# Altium footprint library sony-packages.PcbLib: 4 footprints
Each footprint in its own frame and in the unit in brackets; x right, y up, seen from the top. Pads: shape width x height; smd on the part's side, far side on the other; paste and mask are expansions set on the pad; w line width, h text height; cw(c..) or ccw(c..) is an arc to the next point about the centre after c.
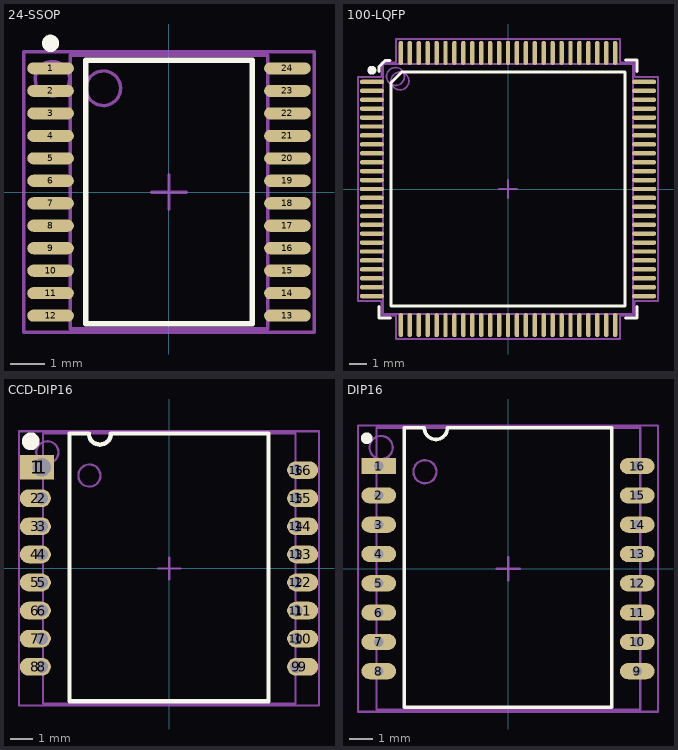
[diagram p0: the footprints below, top view; thin cyan lines are the x and y axes]

## 24-SSOP [mm] "TSOP, 24-Leads, Body 7.9x5.7mm (max), Pitch 0.65mm, IPC High Density"
height 1.25
pads (24):
  oval 1.35x0.35 smd: 1(-3.425,3.575) 2(-3.425,2.925) 3(-3.425,2.275) 4(-3.425,1.625) 5(-3.425,0.975) 6(-3.425,0.325) 7(-3.425,-0.325) 8(-3.425,-0.975) 9(-3.425,-1.625) 10(-3.425,-2.275) 11(-3.425,-2.925) 12(-3.425,-3.575) 13(3.425,-3.575) 14(3.425,-2.925) 15(3.425,-2.275) 16(3.425,-1.625) 17(3.425,-0.975) 18(3.425,-0.325) 19(3.425,0.325) 20(3.425,0.975) 21(3.425,1.625) 22(3.425,2.275) 23(3.425,2.925) 24(3.425,3.575)
Top Overlay:
  circle w0.25: c-3.425,4.3 r0.125
  lines w0.16: -2.413,-3.81 2.413,-3.81 2.413,3.81 -2.413,3.81 -2.413,-3.81
Mechanical 13:
  circle w0.1: c-1.9,3 r0.5
  lines w0.1: -0.5,0 0.5,0 ; 0,-0.5 0,0.5 ; -2.85,-3.95 2.85,-3.95 2.85,3.95 -2.85,3.95 -2.85,-3.95
Mechanical 15:
  circle w0.1: c-3.375,3.275 r0.5
  lines w0.1: -4.2,-4.05 4.2,-4.05 4.2,4.05 -4.2,4.05 -4.2,-4.05
  text ".Designator" at 0.154,-2.413 h0.5
3D body: height 1.29, standoff -0.01, extent -3.828,-4.1 3.828,4.1

## 100-LQFP [mm] "TSQFP, 100-Leads, Body 16.2x16.2mm (max), Pitch 0.50mm, IPC High Density"
height 1.6
pads (100):
  oval 1.35x0.25 smd: 1(-7.625,6) 2(-7.625,5.5) 3(-7.625,5) 4(-7.625,4.5) 5(-7.625,4) 6(-7.625,3.5) 7(-7.625,3) 8(-7.625,2.5) 9(-7.625,2) 10(-7.625,1.5) 11(-7.625,1) 12(-7.625,0.5) 13(-7.625,0) 14(-7.625,-0.5) 15(-7.625,-1) 16(-7.625,-1.5) 17(-7.625,-2) 18(-7.625,-2.5) 19(-7.625,-3) 20(-7.625,-3.5) 21(-7.625,-4) 22(-7.625,-4.5) 23(-7.625,-5) 24(-7.625,-5.5) 25(-7.625,-6) 51(7.625,-6) 52(7.625,-5.5) 53(7.625,-5) 54(7.625,-4.5) 55(7.625,-4) 56(7.625,-3.5) 57(7.625,-3) 58(7.625,-2.5) 59(7.625,-2) 60(7.625,-1.5) 61(7.625,-1) 62(7.625,-0.5) 63(7.625,0) 64(7.625,0.5) 65(7.625,1) 66(7.625,1.5) 67(7.625,2) 68(7.625,2.5) 69(7.625,3) 70(7.625,3.5) 71(7.625,4) 72(7.625,4.5) 73(7.625,5) 74(7.625,5.5) 75(7.625,6)
  oval 0.25x1.35 smd: 26(-6,-7.625) 27(-5.5,-7.625) 28(-5,-7.625) 29(-4.5,-7.625) 30(-4,-7.625) 31(-3.5,-7.625) 32(-3,-7.625) 33(-2.5,-7.625) 34(-2,-7.625) 35(-1.5,-7.625) 36(-1,-7.625) 37(-0.5,-7.625) 38(0,-7.625) 39(0.5,-7.625) 40(1,-7.625) 41(1.5,-7.625) 42(2,-7.625) 43(2.5,-7.625) 44(3,-7.625) 45(3.5,-7.625) 46(4,-7.625) 47(4.5,-7.625) 48(5,-7.625) 49(5.5,-7.625) 50(6,-7.625) 76(6,7.625) 77(5.5,7.625) 78(5,7.625) 79(4.5,7.625) 80(4,7.625) 81(3.5,7.625) 82(3,7.625) 83(2.5,7.625) 84(2,7.625) 85(1.5,7.625) 86(1,7.625) 87(0.5,7.625) 88(0,7.625) 89(-0.5,7.625) 90(-1,7.625) 91(-1.5,7.625) 92(-2,7.625) 93(-2.5,7.625) 94(-3,7.625) 95(-3.5,7.625) 96(-4,7.625) 97(-4.5,7.625) 98(-5,7.625) 99(-5.5,7.625) 100(-6,7.625)
Top Overlay:
  circle w0.25: c-7.625,6.65 r0.125
  lines w0.16: -7.225,-6.575 -7.225,-7.225 -6.575,-7.225 ; -7.225,6.575 -7.225,6.85 ; -6.6,7.2 -6.875,7.2 -7.225,6.85 ; 6.575,-7.225 7.225,-7.225 7.225,-6.575 ; 6.575,7.225 7.225,7.225 7.225,6.575 ; -7.225,6.85 -7.225,6.85 ; -6.55,-6.55 6.55,-6.55 6.55,6.55 -5.95,6.55 -6.55,5.95 -6.55,-6.55
Mechanical 13:
  circle w0.1: c-6.05,6.05 r0.5
  lines w0.1: -0.5,0 0.5,0 ; 0,-0.5 0,0.5 ; -7,-7 7,-7 7,7 -7,7 -7,-7
Mechanical 15:
  circle w0.1: c-6.3,6.3 r0.5
  lines w0.1: -8.4,-6.275 -7.1,-6.275 -7.1,-7.1 -6.275,-7.1 -6.275,-8.4 6.275,-8.4 6.275,-7.1 7.1,-7.1 7.1,-6.275 8.4,-6.275 8.4,6.275 7.1,6.275 7.1,7.1 6.275,7.1 6.275,8.4 -6.275,8.4 -6.275,7.1 -7.1,7.1 -7.1,6.275 -8.4,6.275 -8.4,-6.275
  text ".Designator" at -2.413,-0.154 h0.5
3D body: height 1.61, standoff -0.01, extent -8,-8 8,8

## CCD-DIP16 [mm]
pads (32):
  rect 1.55x1.1 smd paste-0.8: 1(-5.968,4.572)
  rect 1.1x1.1 / inner round 1.1 / far side round 1.1 hole 0.85: 1(-5.75,4.572)
  oval 1.4x0.8 smd paste-0.8: 2(-6.043,3.175) 3(-6.043,1.905) 4(-6.043,0.635) 5(-6.043,-0.635) 6(-6.043,-1.905) 7(-6.043,-3.175) 8(-6.043,-4.445) 9(6.043,-4.445) 10(6.043,-3.175) 11(6.043,-1.905) 12(6.043,-0.635) 13(6.043,0.635) 14(6.043,1.905) 15(6.043,3.175) 16(6.043,4.445)
  round 0.8 hole 0.55: 2(-5.75,3.175) 3(-5.75,1.905) 4(-5.75,0.635) 5(-5.75,-0.635) 6(-5.75,-1.905) 7(-5.75,-3.175) 8(-5.75,-4.445) 9(5.75,-4.445) 10(5.75,-3.175) 11(5.75,-1.905) 12(5.75,-0.635) 13(5.75,0.635) 14(5.75,1.905) 15(5.75,3.175) 16(5.75,4.445)
Top Overlay:
  circle w0.4: c-6.25,5.75 r0.2
  lines w0.2: -2.625,6.1 4.5,6.1 4.5,-6 -4.5,-6 -4.5,6.1 -3.625,6.1 ccw(c-3.124,6.101) -2.622,6.1
Mechanical 13:
  circle w0.1: c-3.6,4.2 r0.5
  lines w0.1: -0.485,0 0.515,0 ; 0.015,-0.5 0.015,0.5 ; -5.695,-6.1 -5.695,6.1 5.725,6.1 5.725,-6.1 5.625,-6.1 -5.695,-6.1
Mechanical 15:
  circle w0.1: c-5.5,5.25 r0.5
  lines w0.1: -6.782,-6.2 6.782,-6.2 6.782,6.2 -6.782,6.2 -6.782,-6.2
  text ".Designator" at 0.154,-2.413 h0.5
3D body: height 3.4, standoff -2.45, extent -5.72,-6.1 5.7,6.1

## DIP16 [mm]
pads (16):
  rect 1.5x0.7 / inner round 0.7 / far side round 0.7 hole 0.42: 1(-5.6,4.445)
  oval 1.5x0.7 / inner round 0.7 / far side round 0.7 hole 0.42: 2(-5.6,3.175) 3(-5.6,1.905) 4(-5.6,0.635) 5(-5.6,-0.635) 6(-5.6,-1.905) 7(-5.6,-3.175) 8(-5.6,-4.445) 9(5.6,-4.445) 10(5.6,-3.175) 11(5.6,-1.905) 12(5.6,-0.635) 13(5.6,0.635) 14(5.6,1.905) 15(5.6,3.175) 16(5.6,4.445)
Top Overlay:
  circle w0.25: c-6.125,5.65 r0.125
  lines w0.16: -2.625,6.1 4.5,6.1 4.5,-6 -4.5,-6 -4.5,6.1 -3.625,6.1 ccw(c-3.124,6.101) -2.622,6.1
Mechanical 13:
  circle w0.1: c-3.6,4.2 r0.5
  lines w0.1: -0.485,0 0.515,0 ; 0.015,-0.5 0.015,0.5 ; -5.695,-6.1 -5.695,6.1 5.725,6.1 5.725,-6.1 5.625,-6.1 -5.695,-6.1
Mechanical 15:
  circle w0.1: c-5.5,5.25 r0.5
  lines w0.1: -6.5,-6.2 6.5,-6.2 6.5,6.2 -6.5,6.2 -6.5,-6.2
  text ".Designator" at 0.154,-2.413 h0.5
3D body: height 5.6, standoff -0.25, extent -5.7,-6.1 5.72,6.1